# EAGLE library part BENS_LIBRARY_ADS1271EVM (library BBB_ADS1271_cape)
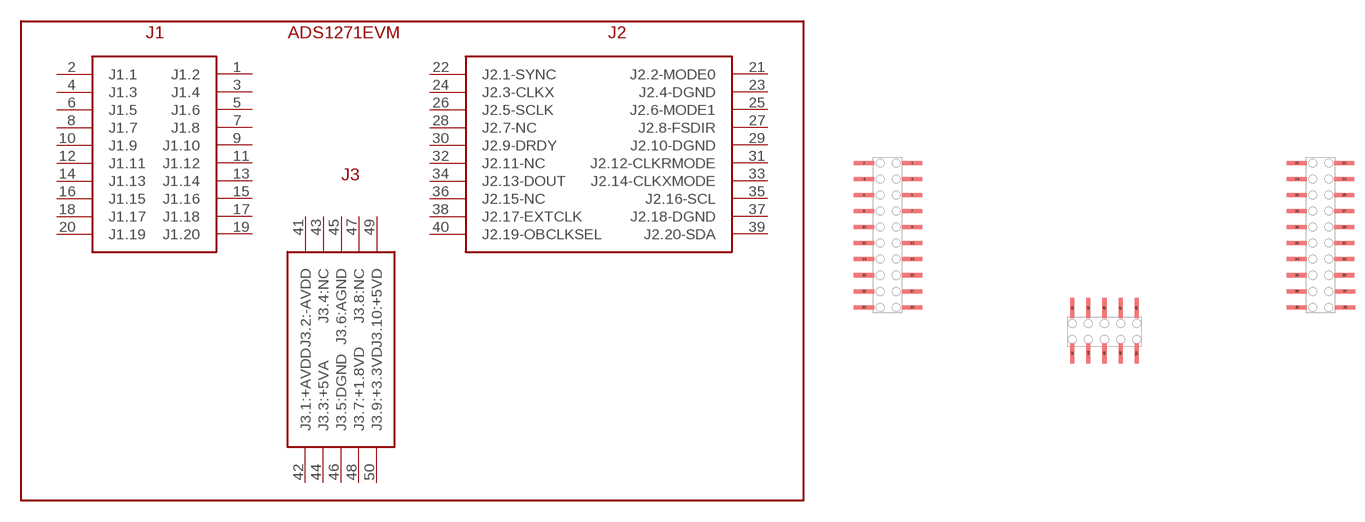
[diagram p2: symbol with the pads of BENS_LIBRARY_ADS1271EVM; footprint BENS_LIBRARY_ADS1271EVM]

Designator prefix -

## BENS_LIBRARY_ADS1271EVM  [BENS_LIBRARY_ADS1271EVM]
1  J1.2
2  J1.1
3  J1.4
4  J1.3
5  J1.6
6  J1.5
7  J1.8
8  J1.7
9  J1.10
10  J1.9
11  J1.12
12  J1.11
13  J1.14
14  J1.13
15  J1.16
16  J1.15
17  J1.18
18  J1.17
19  J1.20
20  J1.19
21  J2.2-MODE0
22  J2.1-SYNC
23  J2.4-DGND
24  J2.3-CLKX
25  J2.6-MODE1
26  J2.5-SCLK
27  J2.8-FSDIR
28  J2.7-NC
29  J2.10-DGND
30  J2.9-DRDY
31  J2.12-CLKRMODE
32  J2.11-NC
33  J2.14-CLKXMODE
34  J2.13-DOUT
35  J2.16-SCL
36  J2.15-NC
37  J2.18-DGND
38  J2.17-EXTCLK
39  J2.20-SDA
40  J2.19-OBCLKSEL
41  J3.2:-AVDD
42  J3.1:+AVDD
43  J3.4:NC
44  J3.3:+5VA
45  J3.6:AGND
46  J3.5:DGND
47  J3.8:NC
48  J3.7:+1.8VD
49  J3.10:+5VD
50  J3.9:+3.3VD

## Footprint BENS_LIBRARY_ADS1271EVM (pad centres in mm)
smd 3.175 x 0.635: 1 7.62,30.48; 2 0,30.48; 3 7.62,27.94; 4 0,27.94; 5 7.62,25.4; 6 0,25.4; 7 7.62,22.86; 8 0,22.86; 9 7.62,20.32; 10 0,20.32; 11 7.62,17.78; 12 0,17.78; 13 7.62,15.24; 14 0,15.24; 15 7.62,12.7; 16 0,12.7; 17 7.62,10.16; 18 0,10.16; 19 7.62,7.62; 20 0,7.62; 21 76.073,30.48; 22 68.58,30.48; 23 76.073,27.94; 24 68.58,27.94; 25 76.073,25.4; 26 68.58,25.4; 27 76.073,22.86; 28 68.58,22.86; 29 76.073,20.32; 30 68.58,20.32; 31 76.073,17.78; 32 68.58,17.78; 33 76.073,15.24; 34 68.58,15.24; 35 76.073,12.7; 36 68.58,12.7; 37 76.2,10.16; 38 68.58,10.16; 39 76.2,7.62; 40 68.58,7.62
smd 0.635 x 3.175: 41 33.02,7.493; 42 33.02,0.318; 43 35.56,7.493; 44 35.56,0.318; 45 38.1,7.493; 46 38.1,0.318; 47 40.64,7.493; 48 40.64,0.318; 49 43.18,7.493; 50 43.18,0.318